# EAGLE library part ADS1226 (library 1dah)
2-ch, 100SPS, 24 bit ADC
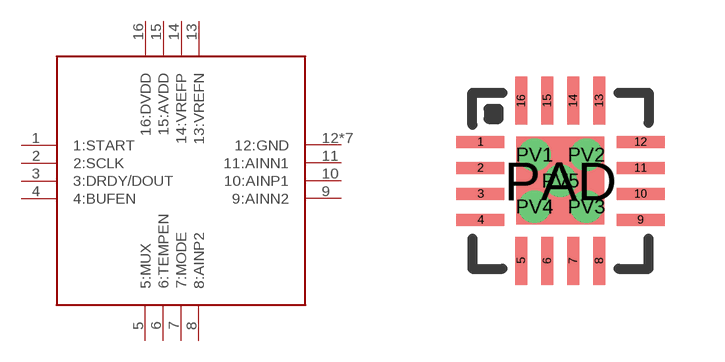
[diagram p48: symbol with the pads of QFN-16; footprint QFN-16]

Designator prefix -

## ADS1226  [QFN-16]
1  1:START  out
2  2:SCLK  out
3  3:DRDY/DOUT  out
4  4:BUFEN  out
5  5:MUX  out
6  6:TEMPEN  out
7  7:MODE  out
8  8:AINP2  out
9  9:AINN2  out
10  10:AINP1  out
11  11:AINN1  out
12  12:GND  out
13  13:VREFN  out
14  14:VREFP  out
15  15:AVDD  out
16  16:DVDD  out
PAD  12:GND  out
PV1  12:GND  out
PV2  12:GND  out
PV3  12:GND  out
PV4  12:GND  out
PV5  12:GND  out

## Footprint QFN-16 (pad centres in mm)
smd 1.2 x 0.3: 1 -2,0.97; 2 -2,0.32; 3 -2,-0.33; 4 -2,-0.98; 9 2,-0.98; 10 2,-0.33; 11 2,0.32; 12 2,0.97
smd 0.3 x 1.2: 5 -0.98,-2; 6 -0.33,-2; 7 0.32,-2; 8 0.97,-2; 13 0.97,2; 14 0.32,2; 15 -0.33,2; 16 -0.98,2
smd 2.2 x 2.2: PAD 0,0
drill 0.3 pad 0.61: PV1 -0.65,0.65; PV2 0.65,0.65; PV3 0.65,-0.65; PV4 -0.65,-0.65; PV5 0,0